# Altium footprint library USOP-10_MAXIM.PcbLib: 1 footprints
Each footprint in its own frame and in the unit in brackets; x right, y up, seen from the top. Pads: shape width x height; smd on the part's side, far side on the other; paste and mask are expansions set on the pad; w line width, h text height; cw(c..) or ccw(c..) is an arc to the next point about the centre after c.
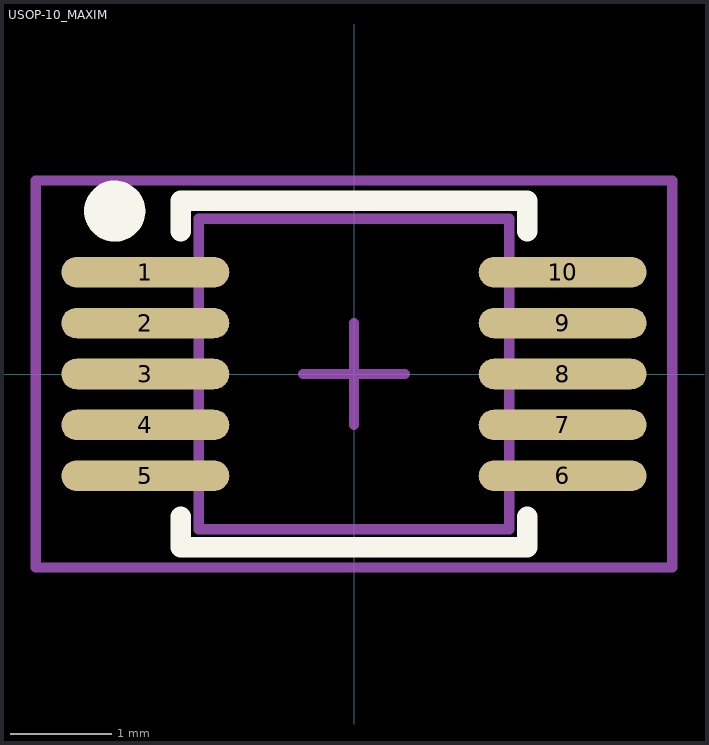
[diagram p0: the footprint, top view; thin cyan lines are the x and y axes]

## USOP-10_MAXIM [mm]
height 1.1
pads (10):
  oval 1.65x0.3 smd mask+0.08: 1(-2.05,1) 2(-2.05,0.5) 3(-2.05,0) 4(-2.05,-0.5) 5(-2.05,-1) 6(2.05,-1) 7(2.05,-0.5) 8(2.05,0) 9(2.05,0.5) 10(2.05,1)
Top Overlay:
  circle w0.3: c-2.35,1.6 r0.15
  lines w0.2: -1.7,-1.4 -1.7,-1.7 1.7,-1.7 1.7,-1.4 ; -1.7,1.4 -1.7,1.7 1.7,1.7 1.7,1.4
Mechanical 13:
  lines w0.1: -1.525,-1.525 1.525,-1.525 1.525,1.525 -1.525,1.525 -1.525,-1.525
Mechanical 15:
  lines w0.1: -0.5,0 0.5,0 ; 0,-0.5 0,0.5 ; -3.125,-1.9 3.125,-1.9 3.125,1.9 -3.125,1.9 -3.125,-1.9
3D body: height 0.95, standoff 0, extent -2.47,-1.495 2.53,1.505